# EAGLE library part OPA2333 (library main_controller)
Description The OPA333 series of CMOS operational amplifiers use a proprietary auto-calibration technique to simultaneously provide very low offset voltage (10 µV, max) and near-zero drift over time and temperature. These miniature, high-precision, low quiescent current amplifiers offer high-impedance inputs that have a common-mode range 100 mV beyond the rails, and rail-to-rail output that swings within 50 mV of the rails. Single or dual supplies as low as +1.8 V (±0.9 V) and up to +5.5 V (±2.75 V) can be used. These devices are optimized for low-voltage, single-supply operation. The OPA333 family offers excellent CMRR without the crossover associated with traditional complementary input stages. This design results in superior performance for driving analog-to-digital converters (ADCs) without degradation of differential linearity. The OPA333 (single version) is available in the SC70-5, SOT23-5, and SO-8 packages. The OPA2333 (dual version) is offered in DFN-8 (3 mm × 3 mm), MSOP-8, and SO-8 packages. All versions are specified for operation from –40°C to +125°C. Features Low Offset Voltage: 10 µV (max) Zero Drift: 0.05 µV/°C (max) 0.01-Hz to 10-Hz Noise: 1.1 µVPP Quiescent Current: 17 µA Single-Supply Operation Supply Voltage: 1.8 V to 5.5 V Rail-to-Rail Input/Output Size Packages: SC70 and SOT23
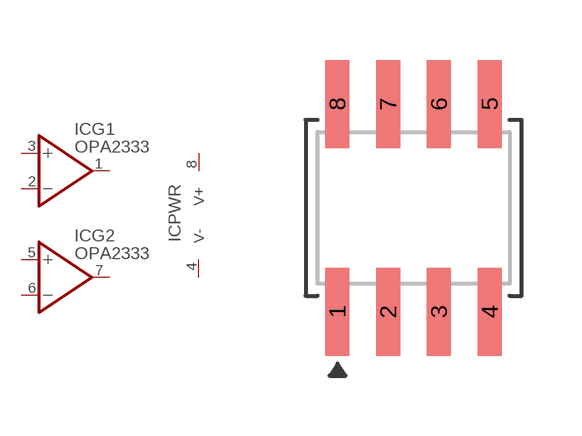
[diagram p8: symbol with the pads of SO08; footprint SO08]

Designator prefix IC; gates G1=OPAMP G2=OPAMP PWR=V+-

## OPA2333SO08 (FARNELL: 1230455; MF: Texas Instruments; MOUSER: 595-OPA2333AIDR; MPN: OPA2333AIDR)  [SO08]
1  G1:OUT  out
2  G1:-IN  in
3  G1:+IN  in
4  PWR:V-  pwr
5  G2:+IN  in
6  G2:-IN  in
7  G2:OUT  out
8  PWR:V+  pwr

## Footprint SO08 (pad centres in mm)
smd 0.6 x 2.2: 1 -1.905,-2.6; 2 -0.635,-2.6; 3 0.635,-2.6; 4 1.905,-2.6; 5 1.905,2.6; 6 0.635,2.6; 7 -0.635,2.6; 8 -1.905,2.6